# Altium schematic symbol library cap 100uF.SchLib: 1 symbol
Pins are listed as number, name and electrical type; pins without a type are passive.

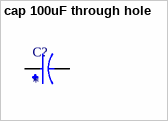
[diagram p0: symbol cap 100uF through hole]

## cap 100uF through hole
designator C?
MP: EEU-HD1E101; MF: Panasonic; Purchase-URL: https://pricing.snapeda.com/search/part/EEU-HD1E101/?ref=eda; Value: *; SnapEDA_Link: https://www.snapeda.com/parts/EEU-HD1E101/Panasonic/view-part/?ref=snap; Price: None; Package: RADIAL-2 Panasonic; Check_prices: https://www.snapeda.com/parts/EEU-HD1E101/Panasonic/view-part/?ref=eda; Availability: In Stock
footprint CAPPRD250W50D630H1120
pins: N, P